# Altium footprint library 3.2LCD.PcbLib: 8 footprints
Each footprint in its own frame and in the unit in brackets; x right, y up, seen from the top. Pads: shape width x height; smd on the part's side, far side on the other; paste and mask are expansions set on the pad; w line width, h text height; cw(c..) or ccw(c..) is an arc to the next point about the centre after c.
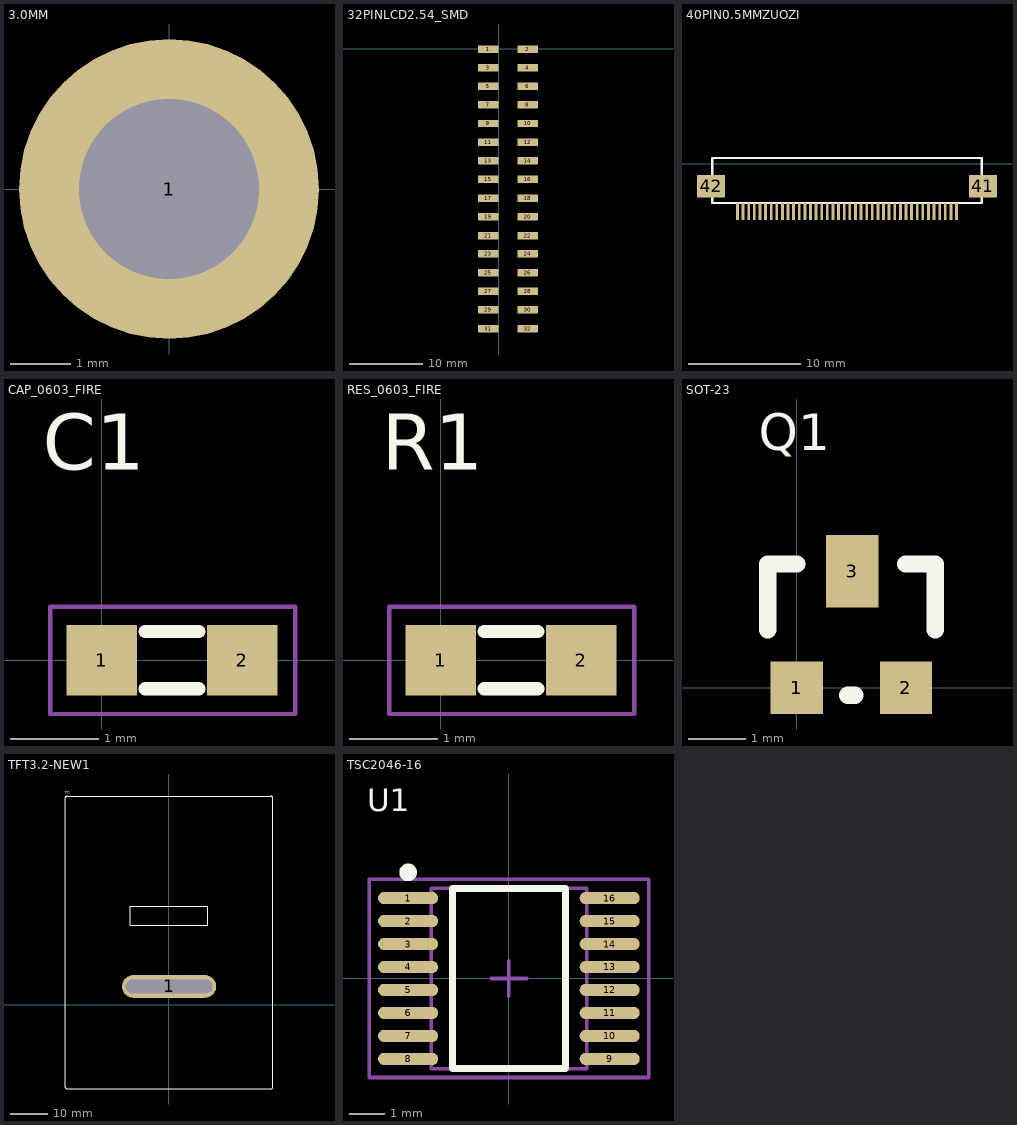
[diagram p0: the footprints below, top view; thin cyan lines are the x and y axes]

## 3.0MM [mm]
pads (1):
  round 5 hole 3: 1(0,0)
Bottom Layer:
  text "J6" at 0,-3.04 h0.64

## 32PINLCD2.54_SMD [mm]
pads (32):
  rect 2.8x1.02 smd: 1(-1.445,-0.04) 2(3.985,-0.04) 3(-1.445,-2.54) 4(3.985,-2.54) 5(-1.445,-5.08) 6(3.985,-5.08) 7(-1.445,-7.62) 8(3.985,-7.62) 9(-1.445,-10.16) 10(3.985,-10.16) 11(-1.445,-12.74) 12(3.985,-12.74) 13(-1.445,-15.24) 14(3.985,-15.24) 15(-1.445,-17.78) 16(3.985,-17.78) 17(-1.445,-20.32) 18(3.985,-20.32) 19(-1.445,-22.86) 20(3.985,-22.86) 21(-1.445,-25.44) 22(3.985,-25.44) 23(-1.445,-27.94) 24(3.985,-27.94) 25(-1.445,-30.48) 26(3.985,-30.48) 27(-1.445,-33.02) 28(3.985,-33.02) 29(-1.445,-35.56) 30(3.985,-35.56) 31(-1.445,-38.14) 32(3.985,-38.14)

## 40PIN0.5MMZUOZI [mm]
pads (42):
  rect 0.25x1.5 smd: 1(6,-4.25) 2(6.5,-4.25) 3(7,-4.25) 4(7.5,-4.25) 5(8,-4.25) 6(8.5,-4.25) 7(9,-4.25) 8(9.5,-4.25) 9(10,-4.25) 10(10.5,-4.25) 11(11,-4.25) 12(11.5,-4.25) 13(12,-4.25) 14(12.5,-4.25) 15(13,-4.25) 16(13.5,-4.25) 17(14,-4.25) 18(14.5,-4.25) 19(15,-4.25) 20(15.5,-4.25) 21(16,-4.25) 22(16.5,-4.25) 23(17,-4.25) 24(17.5,-4.25) 25(18,-4.25) 26(18.5,-4.25) 27(19,-4.25) 28(19.5,-4.25) 29(20,-4.25) 30(20.5,-4.25) 31(21,-4.25) 32(21.5,-4.25) 33(22,-4.25) 34(22.5,-4.25) 35(23,-4.25) 36(23.5,-4.25) 37(24,-4.25) 38(24.5,-4.25) 39(25,-4.25) 40(25.5,-4.25)
  rect 2.5x2 smd: 41(27.85,-2) 42(3.65,-2)
Top Layer:
  text "J2" at -0.063,0.393 h0.64
  text "40PIN0.5MMZUOZI" at 0,-0.762 h0.64
Top Overlay:
  lines w0.2: 3.75,-3.5 3.75,0.5 27.75,0.5 27.75,-3.5 3.75,-3.5

## CAP_0603_FIRE [mm]
pads (2):
  rect 0.8x0.8 smd: 1(0,0) 2(1.6,0)
Top Overlay:
  lines w0.15: 0.495,-0.323 1.105,-0.323 ; 0.495,0.326 1.105,0.326
  text "C1" at -0.665,2.161 h0.64
Mechanical 1:
  lines w0.051: -0.584,-0.61 -0.584,0.61 2.197,0.61 2.197,-0.61 -0.584,-0.61

## RES_0603_FIRE [mm]
pads (2):
  rect 0.8x0.8 smd: 1(0,0) 2(1.6,0)
Top Overlay:
  lines w0.15: 0.495,-0.323 1.105,-0.323 ; 0.495,0.326 1.105,0.326
  text "R1" at -0.665,2.161 h0.64
Mechanical 1:
  lines w0.051: -0.584,-0.61 2.197,-0.61 2.197,0.61 -0.584,0.61 -0.584,-0.61

## SOT-23 [mil]
pads (3):
  rect 36x36 smd: 1(0,0) 2(75,0)
  rect 36x50 smd: 3(38,80)
Top Overlay:
  lines w12: -20,40 -20,85 0,85 ; 35,-5 40,-5 ; 75,85 95,85 95,40
  text "Q1" at -26,163 h25

## TFT3.2-NEW1 [mm]
height 1.2
pads (1):
  oval 25x6 hole 3.6 slot 23 at 0 deg: 1(0.023,4.898)
Top Overlay:
  lines w0.1: -27.52,-21.8 ccw(c-26.953,-21.732) -26.885,-22.3 26.887,-22.3 ccw(c26.954,-21.732) 27.522,-21.8 27.522,54.9 ccw(c26.954,54.833) 26.887,55.4 -26.885,55.4 ccw(c-26.953,54.833) -27.52,54.9 -27.52,-21.8
  lines w0.15: -10.25,3.6 10.25,3.6 10.25,6.2 -10.25,6.2 -10.25,3.6 ; -10.25,21.2 10.25,21.2 10.25,26.2 -10.25,26.2 -10.25,21.2
  text "U4" at -26.276,56.647 h0.64

## TSC2046-16 [mm]
pads (16):
  oval 1.7x0.35 smd: 1(-2.85,2.275) 2(-2.85,1.625) 3(-2.85,0.975) 4(-2.85,0.325) 5(-2.85,-0.325) 6(-2.85,-0.975) 7(-2.85,-1.625) 8(-2.85,-2.275) 9(2.85,-2.275) 10(2.85,-1.625) 11(2.85,-0.975) 12(2.85,-0.325) 13(2.85,0.325) 14(2.85,0.975) 15(2.85,1.625) 16(2.85,2.275)
Top Overlay:
  circle w0.25: c-2.85,3 r0.125
  lines w0.2: -1.6,-2.55 1.6,-2.55 1.6,2.55 -1.6,2.55 -1.6,-2.55
  text "U1" at -4,4.723 h0.64
Mechanical 16:
  lines w0.1: -0.5,0 0.5,0 ; 0,-0.5 0,0.5 ; -3.95,-2.8 3.95,-2.8 3.95,2.8 -3.95,2.8 -3.95,-2.8 ; -2.2,-2.55 2.2,-2.55 2.2,2.55 -2.2,2.55 -2.2,-2.55